# EAGLE library part USB (library scono)
Micro Usb, 2.0 Type b, Receptacle, Smt
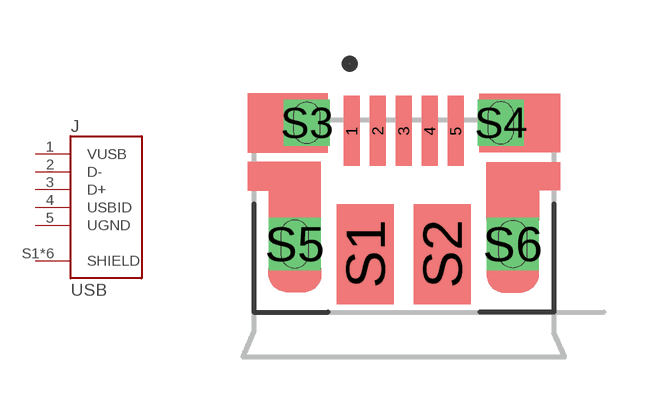
[diagram p75: symbol with the pads of FCI_10103594-0001LF; footprint FCI_10103594-0001LF]

Designator prefix J

## USB (DESCRIPTION: Micro Usb, 2.0 Type b, Receptacle, Smt; DIGI-KEY_PART_NUMBER: 609-4050-1-ND; DIGI-KEY_PURCHASE_URL: https://www.digikey.com/product-detail/en/amphenol-icc-fci/10103594-0001LF/609-4050-1-ND/2350357?utm_source=snapeda&utm_medium=aggregator&utm_campaign=symbol; MF: Amphenol ICC; MP: 10103594-0001LF; PACKAGE: None)  [FCI_10103594-0001LF]
1  VUSB  pas
2  D-  pas
3  D+  pas
4  USBID  pas
5  UGND  pas
S1  SHIELD  pas
S2  SHIELD  pas
S3  SHIELD  pas
S4  SHIELD  pas
S5  SHIELD  pas
S6  SHIELD  pas

## Footprint FCI_10103594-0001LF (pad centres in mm)
smd 0.4 x 1.75: 1 -1.3,2.825; 2 -0.65,2.825; 3 0,2.825; 4 0.65,2.825; 5 1.3,2.825
smd 1.425 x 2.5: S1 -0.963,-0.25; S2 0.963,-0.25
drill 0.65 pad 1.05 square: S3 -2.425,3.03; S4 2.425,3.03
drill 0.7 pad 1.3 square: S5 -2.725,0; S6 2.725,0